# EAGLE library part FTDI (library custom-connectors)
USB TTL Serial Cable
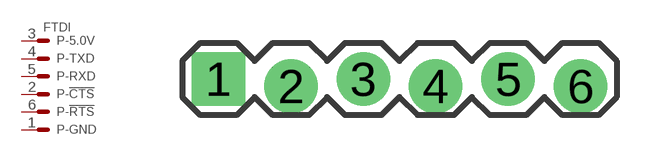
[diagram p4: symbol with the pads of 1X06_LOCK; footprint 1X06_LOCK]

Designator prefix P; gates -5.0V=MV -!CTS=M -GND=M -TXD=M -RXD=M -!RTS=M

## FTDI_TH  [1X06_LOCK]
1  -GND:S  pas
2  -!CTS:S  pas
3  -5.0V:S  pas
4  -TXD:S  pas
5  -RXD:S  pas
6  -!RTS:S  pas

## Footprint 1X06_LOCK (pad centres in mm)
drill 1.016 pad 1.88 square: 1 0,0
drill 1.016 pad 1.88: 2 2.54,-0.254; 3 5.08,0; 4 7.62,-0.254; 5 10.16,0; 6 12.7,-0.254